# EAGLE library part REG71050 (library PJ20)
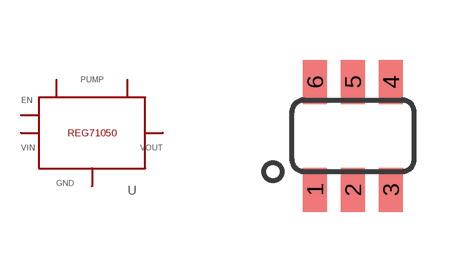
[diagram p1: symbol with the pads of DDC; footprint DDC]

Designator prefix -

## REG71050  [DDC]
1  VOUT
2  GND
3  ENABLE
4  CPUMP-
5  VIN
6  CPUMP+

## Footprint DDC (pad centres in mm)
smd 0.6 x 1.1: 1 -0.95,-1.35; 2 0,-1.35; 3 0.95,-1.35; 4 0.95,1.35; 5 0,1.35; 6 -0.95,1.35